# Altium schematic symbol library TPS22810.Schlib: 1 symbol
Pins are listed as number, name and electrical type; pins without a type are passive.

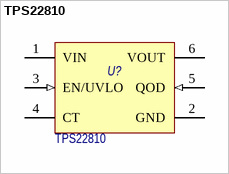
[diagram p0: symbol TPS22810]

## TPS22810
designator U?
2.7-18-V, 79-mΩ On-Resistance Load Switch With Thermal Protection; Потребление, Вт: 0,001; ComponentLink1Description: Data sheet; ComponentLink1URL: http://www.ti.com/lit/ds/symlink/tps22810.pdf; Назначение: 2.7-18-V, 79-mΩ On-Resistance Load Switch With Thermal Protection; Наименование: TPS22810
footprint SOT-23_JEDEC-MO-178 (6-Lead SOT23, JEDEC-178)
pins: 1 VIN (power) "Input pin.", 2 GND (oc) "Power good open drain output pin. A pull-up resistor can be connected to any voltage less than 6V. Leave it open if it is not used.", 3 EN/UVLO (in) "Enable pin. Pull High to enable the device. Pull Low to disable the device. This pin has an internal pull-down resistor of typically 400kohm when the device is disabled", 4 CT (power) "Ground pin.", 5 QOD (in) "Feedback reference pin. An external resistor divider connected to this pin programs the output voltage.", 6 VOUT (power) "Output pin."